# Altium footprint library mu-ssbpp_FootprintLibrary.PcbLib: 48 footprints (part 3 of 3)
Each footprint in its own frame and in the unit in brackets; x right, y up, seen from the top. Pads: shape width x height; smd on the part's side, far side on the other; paste and mask are expansions set on the pad; w line width, h text height; cw(c..) or ccw(c..) is an arc to the next point about the centre after c.
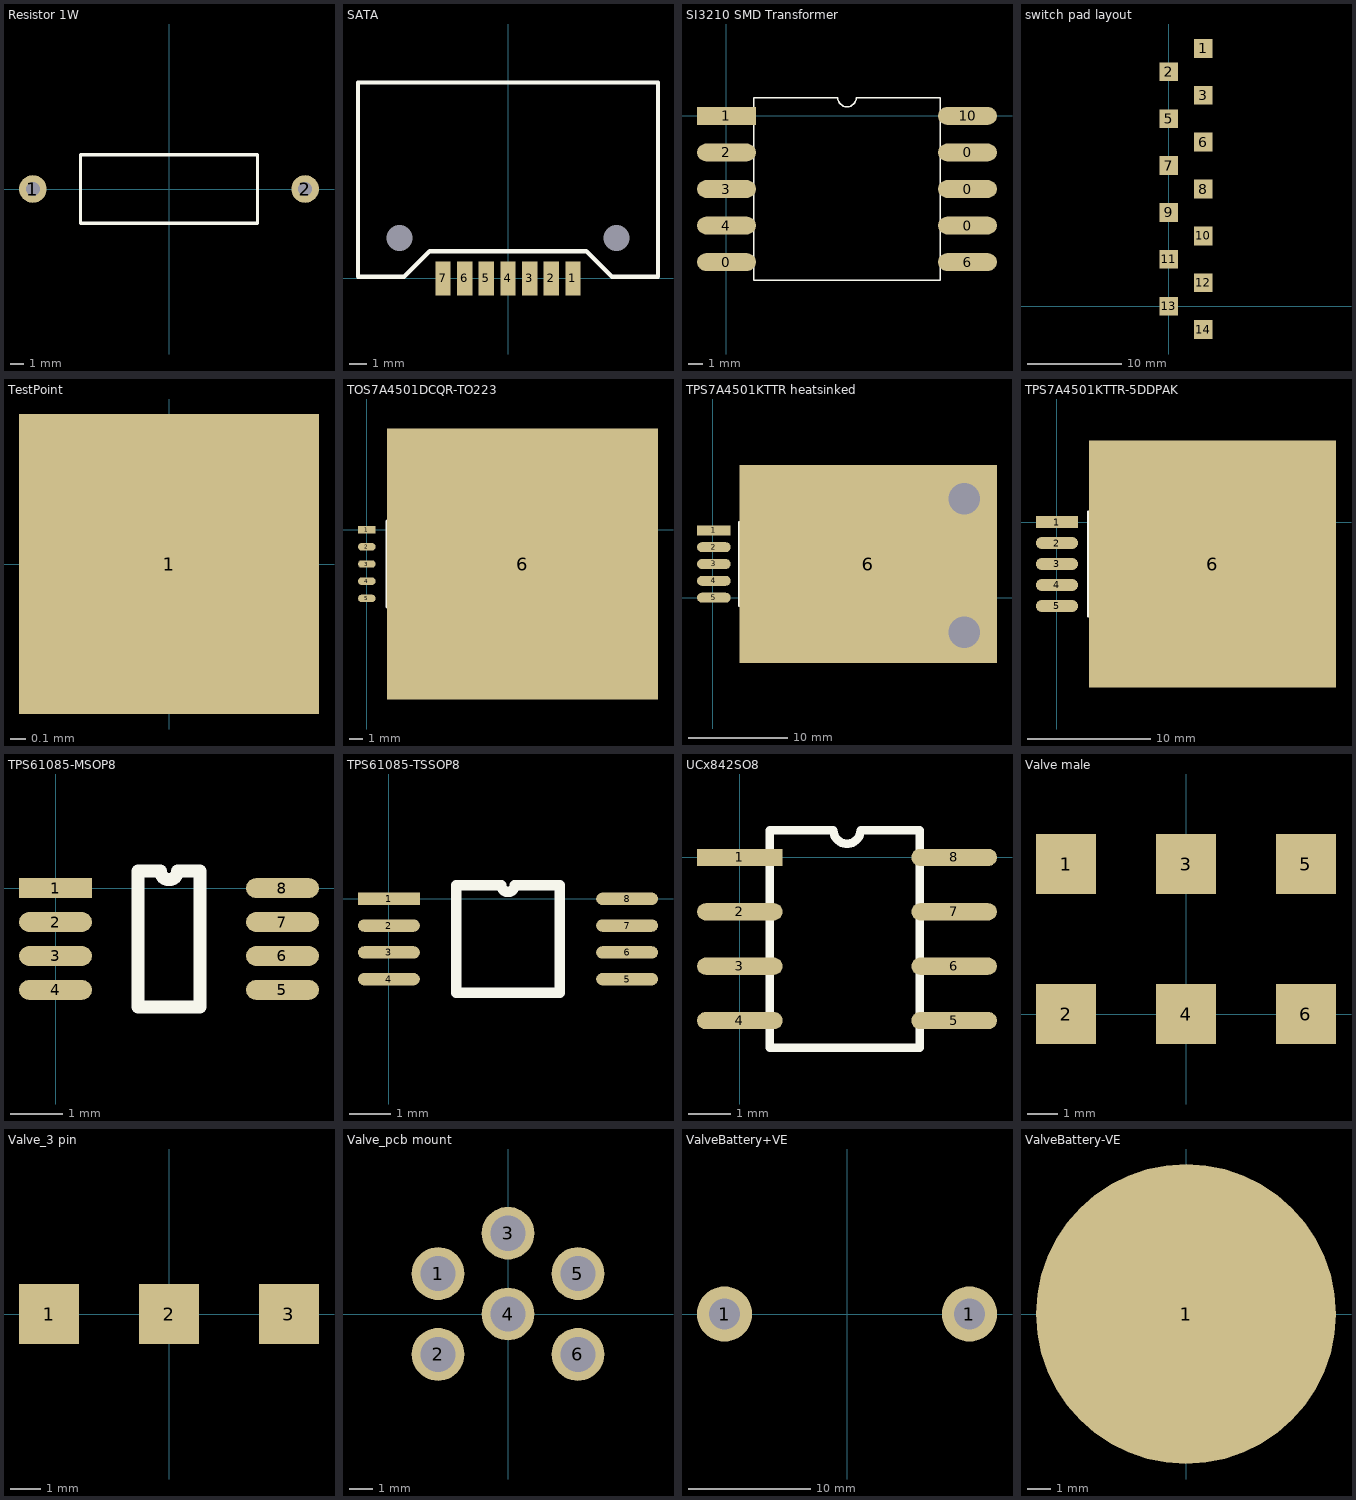
[diagram p2: the footprints below, top view; thin cyan lines are the x and y axes]

## Resistor 1W [mil]
height 196.85
pads (2):
  round 80 hole 40: 1(-393.7,0) 2(393.7,0)
Top Overlay:
  lines w10: -255.91,-98.43 255.91,-98.43 255.91,98.43 -255.91,98.43 -255.91,-98.43

## SATA [mm]
height 4
pads (9):
  round 0 hole 1.524 unplated: 0(-6.375,2.362) 0(6.375,2.362)
  rect 0.9x2 smd: 1(3.81,0) 2(2.54,0) 3(1.27,0) 4(0,0) 5(-1.27,0) 6(-2.54,0) 7(-3.81,0)
Top Overlay:
  lines w0.254: -8.8,0.1 -8.8,11.5 ; -8.75,0.1 -6.1,0.1 -4.6,1.6 4.6,1.6 6.1,0.1 8.75,0.1 ; -8.75,11.5 8.75,11.5 ; 8.8,0.1 8.8,11.5

## SI3210 SMD Transformer [mm]
pads (10):
  oval 4x1.2 smd: 0(0,-9.92) 0(16.36,-7.44) 0(16.36,-4.96) 0(16.36,-2.48) 2(0,-2.48) 3(0,-4.96) 4(0,-7.44) 6(16.36,-9.92) 10(16.36,0)
  rect 4x1.2 smd: 1(0,0)
Top Overlay:
  lines w0.1: 1.835,-11.16 1.835,1.24 7.56,1.24 ccw(c8.18,1.24) 8.8,1.24 14.525,1.24 14.525,-11.16 1.835,-11.16

## switch pad layout [mm]
pads (13):
  rect 2x2 smd: 1(3.7,27.5) 2(0,25) 3(3.7,22.5) 5(0,20) 6(3.7,17.5) 7(0,15) 8(3.7,12.5) 9(0,10) 10(3.7,7.5) 11(0,5) 12(3.7,2.5) 13(0,0) 14(3.7,-2.5)

## TestPoint [mm]
pads (1):
  rect 2x2 smd: 1(0,0)

## TOS7A4501DCQR-TO223 [mm]
pads (6):
  rect 1.3x0.55 smd: 1(0,0)
  oval 1.3x0.55 smd: 2(0,-1.27) 3(0,-2.54) 4(0,-3.81) 5(0,-5.08)
  rect 20x20 smd: 6(11.5,-2.54)
Top Overlay:
  lines w0.2: 1.485,-5.715 1.485,0.635 2.332,0.635 ccw(c2.65,0.635) 2.967,0.635 3.815,0.635 3.815,-5.715 1.485,-5.715

## TPS7A4501KTTR heatsinked [mm]
pads (6):
  rect 3.4x1 smd: 1(0.1,6.8)
  oval 3.4x1 smd: 2(0.1,5.1) 3(0.1,3.4) 4(0.1,1.7) 5(0.1,0)
  rect 26x20 smd: 6(15.7,3.4)
via 25.4,-3.5 diameter 3.683 hole 3.175
via 25.4,10 diameter 3.683 hole 3.175
Top Overlay:
  lines w0.2: 2.635,-0.85 8.165,-0.85 8.165,7.65 5.825,7.65 cw(c5.4,7.65) 4.975,7.65 2.635,7.65 2.635,-0.85

## TPS7A4501KTTR-5DDPAK [mm]
pads (6):
  rect 3.4x1 smd: 1(0,0)
  oval 3.4x1 smd: 2(0,-1.7) 3(0,-3.4) 4(0,-5.1) 5(0,-6.8)
  rect 20x20 smd: 6(12.6,-3.4)
Top Overlay:
  lines w0.2: 2.535,-7.65 8.065,-7.65 8.065,0.85 5.725,0.85 cw(c5.3,0.85) 4.875,0.85 2.535,0.85 2.535,-7.65

## TPS61085-MSOP8 [mm] "Ti Step-Up DCDC Converter - MSOP 8 Pin Package"
pads (8):
  rect 1.4x0.38 smd: 1(0,0)
  oval 1.4x0.38 smd: 2(0,-0.65) 3(0,-1.3) 4(0,-1.95) 5(4.35,-1.95) 6(4.35,-1.3) 7(4.35,-0.65) 8(4.35,0)
Top Overlay:
  lines w0.25: 1.585,-2.275 1.585,0.325 2.013,0.325 ccw(c2.175,0.325) 2.337,0.325 2.765,0.325 2.765,-2.275 1.585,-2.275

## TPS61085-TSSOP8 [mm] "Ti Step-Up DCDC Converter - TSSOP 8 Pin Package"
pads (8):
  rect 1.5x0.3 smd: 1(0,0)
  oval 1.5x0.3 smd: 2(0,-0.65) 3(0,-1.3) 4(0,-1.95) 5(5.775,-1.95) 6(5.775,-1.3) 7(5.775,-0.65) 8(5.775,0)
Top Overlay:
  lines w0.25: 1.635,-2.275 4.14,-2.275 4.14,0.325 3.05,0.325 cw(c2.887,0.325) 2.725,0.325 1.635,0.325 1.635,-2.275

## UCx842SO8 [mm]
height 1.75
pads (8):
  rect 2x0.4 smd: 1(0,0)
  oval 2x0.4 smd: 2(0,-1.27) 3(0,-2.54) 4(0,-3.81) 5(5,-3.81) 6(5,-2.54) 7(5,-1.27) 8(5,0)
Top Overlay:
  lines w0.2: 0.7,-4.445 0.7,0.635 2.183,0.635 ccw(c2.5,0.635) 2.818,0.635 4.2,0.635 4.2,-4.445 0.7,-4.445

## Valve male [mm]
pads (6):
  rect 2x2 smd: 1(-4,5) 2(-4,0) 3(0,5) 4(0,0) 5(4,5) 6(4,0)

## Valve_3 pin [mm] "3 pin connector for half a valve connection"
pads (3):
  rect 2x2 smd: 1(-4,0) 2(0,0) 3(4,0)

## Valve_pcb mount [mil] "pcb foot print for valve connector mounting"
pads (6):
  round 90 hole 60: 1(-119.29,68.9) 2(-119.29,-68.9) 3(0,137.8) 4(0,0) 5(119.29,68.9) 6(119.29,-68.9)
Bottom Overlay:
  circle w10: c0,0 r255.91

## ValveBattery+VE [mm]
pads (2):
  round 4.5 hole 2.54: 1(-10,0) 1(10,0)

## ValveBattery-VE [mm]
pads (1):
  round 13 smd: 1(0,0)